# Altium schematic symbol library Opam.SchLib: 1 symbol
Pins are listed as number, name and electrical type; pins without a type are passive.

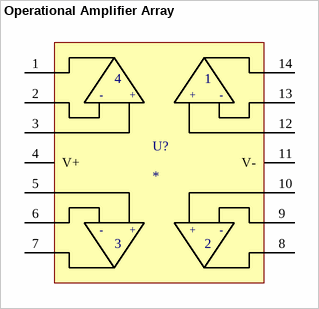
[diagram p0: symbol Operational Amplifier Array]

## Operational Amplifier Array
designator U?
Array Opam; Digi-Key Part Number: LMC660CMX/NOPBCT-ND
footprint Opam Array (Four Opam)
pins: 1, 2, 3, 4 V+, 5, 6, 7, 8, 9, 10, 11 V-, 12, 13, 14
text: -; +